# Altium footprint library Resistors.PcbLib: 2 footprints
Each footprint in its own frame and in the unit in brackets; x right, y up, seen from the top. Pads: shape width x height; smd on the part's side, far side on the other; paste and mask are expansions set on the pad; w line width, h text height; cw(c..) or ccw(c..) is an arc to the next point about the centre after c.
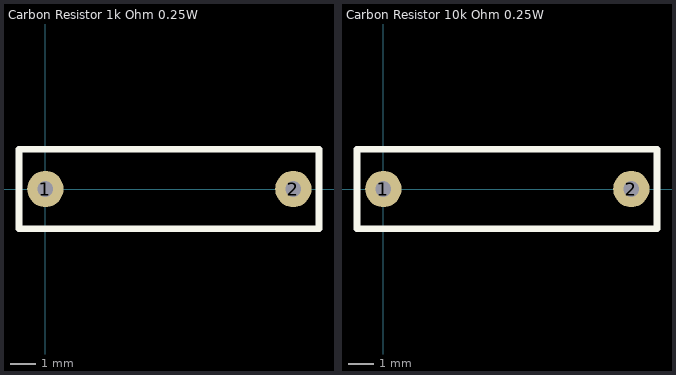
[diagram p0: the footprints below, top view; thin cyan lines are the x and y axes]

## Carbon Resistor 1k Ohm 0.25W [mm]
pads (2):
  round 1.4 hole 0.6: 1(0,0) 2(9.55,0)
Top Overlay:
  lines w0.254: -1.016,-1.524 10.541,-1.524 10.541,1.524 -1.016,1.524 -1.016,-1.524
3D body "CFR25JT521K--3DModel-STEP-269445.STEP": height 3.59, standoff -22.7, extent -0.28,-1.3 9.82,1.3

## Carbon Resistor 10k Ohm 0.25W [mm]
pads (2):
  round 1.4 hole 0.6: 1(0,0) 2(9.55,0)
Top Overlay:
  lines w0.254: -1.016,-1.524 10.541,-1.524 10.541,1.524 -1.016,1.524 -1.016,-1.524
3D body "CFR25JT521K--3DModel-STEP-269445.STEP": height 3.59, standoff -22.7, extent -0.28,-1.3 9.82,1.3